# Altium integrated library Connectors - RF Connectors.IntLib: 4 symbols
Pins are listed as number, name and electrical type; pins without a type are passive.

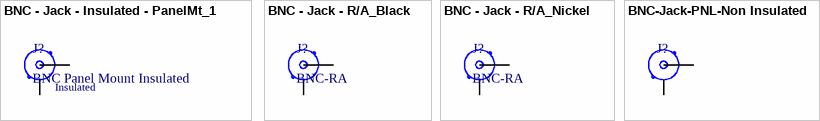
[diagram p0: symbols BNC - Jack - Insulated - PanelMt_1 to BNC-Jack-PNL-Non Insulated]

## BNC - Jack - Insulated - PanelMt_1
designator J?, comment BNC Panel Mount Insulated
BNC, Jack, Straight, 50 ohm, panel mount, solder; Connector Type: Jack, Female Socket; Fastening Washer: 31-10152-RFX; Frequency Max: 4 GHz; Impedance: 50 ohm; Supplier 1: Allied; Supplier Part Number 1: 70142921; Supplier 2: Mouser; Supplier Part Number 2: 523-31-10-RFXG1; Supplier 3: Digi-Key; Supplier Part Number 3: ARFX1063-ND; Supplier 4: Newark; Supplier Part Number 4: 38F1322; Connector Style: BNC; Fastening Type: Bayonet Lock; Mounting Type: Panel Mount, Bulkhead - Rear Side Nut; Terminations: Solder Cup
footprint BNC - IN - PNLMT (Insulated BNC connector, panel mount)
pins: 1, 2 barrel
text: Insulated

## BNC - Jack - R/A_Black
designator J?, comment BNC-RA
BNC Jack, Female Socket, Right Angle, 50 ohm, PCB solder; Impedance: 50 ohm; Frequency Max: 4 GHz; Fastening Nut: 1-1634816-0 hex nut; Fastening Washer: 1-1634817-0 Lockwasher (10pk); Supplier 1: Digi-Key; Supplier Part Number 1: A97555-ND; Supplier 2: Mouser; Supplier Part Number 2: 571-1-1634612-0; Supplier 3: Newark; Supplier Part Number 3: 78M7210; Supplier 4: TME; Supplier Part Number 4: 1-1634612-0; Connector Style: BNC; Connector Type: Jack, Female Socket; Terminations: Solder; Mounting Type: Panel Mount, Bulkhead; Through Hole, Right Angle; Fastening Type: Bayonet Lock
footprint BNC_RA Black (Connector; BNC Elbow)
pins: 1, 2

## BNC - Jack - R/A_Nickel
designator J?, comment BNC-RA
BNC Jack, Female Socket, Right Angle, 50 ohm, PCB solder; Impedance: 50 ohm; Frequency Max: 4 GHz; Fastening Nut: 1-1634816-0 hex nut; Fastening Washer: 1-1634817-0 Lockwasher (10pk); Connector Style: BNC; Connector Type: Jack, Female Socket; Terminations: Solder; Mounting Type: Panel Mount, Bulkhead; Through Hole, Right Angle; Fastening Type: Bayonet Lock; Supplier 1: Newark; Supplier Part Number 1: 42K8704; Supplier 2: Mouser; Supplier Part Number 2: 571-5227677-1; Supplier 3: Digi-Key; Supplier Part Number 3: A24499-ND
footprint BNC_RA Nickel (Connector; BNC Elbow)
pins: 1, 2

## BNC-Jack-PNL-Non Insulated
designator J?, comment BNC Panel Mount  (value not drawn)
BNC, Jack, Straight, 50 ohm, panel mount, solder; Connector Type: Jack, Female Socket; Fastening Washer: 31-10152-RFX; Frequency Max: 4 GHz; Impedance: 50 ohm; Connector Style: BNC; Fastening Type: Bayonet Lock; Mounting Type: Panel Mount, Bulkhead - Rear Side Nut; Terminations: Solder Cup; Supplier 1: Newark; Supplier Part Number 1: 10J9139; Supplier 2: Allied; Supplier Part Number 2: 70144271; Supplier 3: Digi-Key; Supplier Part Number 3: 367-1019-ND
footprint BNC - IN - PNLMT (Insulated BNC connector, panel mount, Pads ONLY)
pins: 1, 2 barrel